# Altium schematic symbol library TPD4E1B06DCKR.Schlib: 1 symbol
Pins are listed as number, name and electrical type; pins without a type are passive.

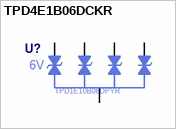
[diagram p0: symbol TPD4E1B06DCKR]

## TPD4E1B06DCKR
designator U?  Min Breakdown Voltage: 6V  Manufacturer Part Number: TPD1E10B06DPYR  (hidden comment: TPD4E1B06DCKR)
pins: 1 IO1, 2 IO2, 3 GND, 4 IO3, 5 IO4